# EAGLE library part STM32F030F4P6TR (library SamacSys_Parts)
32-Bit MCU Cortex-M0 16K Flash TSSOP20 32-Bit MCU Cortex-M0 16K Flash TSSOP20 Source: Datasheet <http://www.st.com/web/en/resource/technical/document/datasheet/DM00088500.pdf>
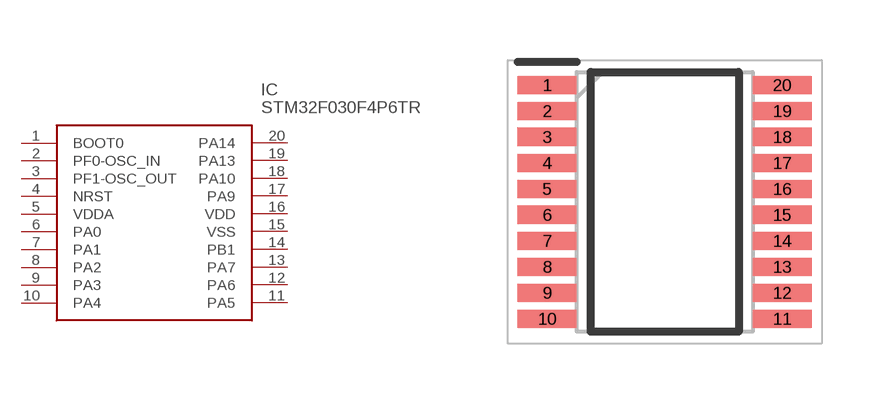
[diagram p0: symbol with the pads of SOP65P640X120-20N; footprint SOP65P640X120-20N]

Designator prefix IC

## STM32F030F4P6TR (Allied_Number: 70521133; Allied_Price-Stock: http://www.alliedelec.com/stmicroelectronics-stm32f030f4p6tr/70521133/; Arrow_Part_Number: STM32F030F4P6TR; Arrow_Price-Stock: https://www.arrow.com/en/products/stm32f030f4p6tr/stmicroelectronics; Description: 32-Bit MCU Cortex-M0 16K Flash TSSOP20 32-Bit MCU Cortex-M0 16K Flash TSSOP20; Height: 1.2mm; Manufacturer_Name: STMicroelectronics; Manufacturer_Part_Number: STM32F030F4P6TR; RS_Part_Number: 1688744; RS_Price-Stock: http://uk.rs-online.com/web/p/products/1688744)  [SOP65P640X120-20N]
1  BOOT0
2  PF0-OSC_IN  in
3  PF1-OSC_OUT  out
4  NRST  in
5  VDDA  pwr
6  PA0
7  PA1
8  PA2
9  PA3
10  PA4
11  PA5
12  PA6
13  PA7
14  PB1
15  VSS  pwr
16  VDD  pwr
17  PA9
18  PA10
19  PA13
20  PA14

## Footprint SOP65P640X120-20N (pad centres in mm)
TSSOP20
smd 1.475 x 0.45: 1 -2.938,2.925; 2 -2.938,2.275; 3 -2.938,1.625; 4 -2.938,0.975; 5 -2.938,0.325; 6 -2.938,-0.325; 7 -2.938,-0.975; 8 -2.938,-1.625; 9 -2.938,-2.275; 10 -2.938,-2.925; 11 2.938,-2.925; 12 2.938,-2.275; 13 2.938,-1.625; 14 2.938,-0.975; 15 2.938,-0.325; 16 2.938,0.325; 17 2.938,0.975; 18 2.938,1.625; 19 2.938,2.275; 20 2.938,2.925